# Altium schematic symbol library ATSAMD21J18A-AF.Schlib: 1 symbol
Pins are listed as number, name and electrical type; pins without a type are passive.

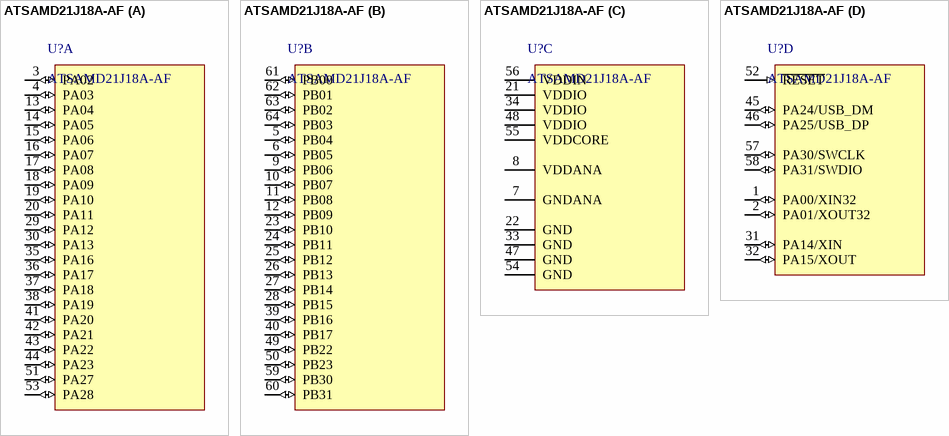
[diagram p0: symbol ATSAMD21J18A-AF]

## ATSAMD21J18A-AF
designator U?
ARM Microcontrollers - MCU 64TQFP 125C, GREEN,1.6-3.6V,48MHz
part A pins: 3 PA02 (io), 4 PA03 (io), 13 PA04 (io), 14 PA05 (io), 15 PA06 (io), 16 PA07 (io), 17 PA08 (io), 18 PA09 (io), 19 PA10 (io), 20 PA11 (io), 29 PA12 (io), 30 PA13 (io), 35 PA16 (io), 36 PA17 (io), 37 PA18 (io), 38 PA19 (io), 41 PA20 (io), 42 PA21 (io), 43 PA22 (io), 44 PA23 (io), 51 PA27 (io), 53 PA28 (io)
part B pins: 5 PB04 (io), 6 PB05 (io), 9 PB06 (io), 10 PB07 (io), 11 PB08 (io), 12 PB09 (io), 23 PB10 (io), 24 PB11 (io), 25 PB12 (io), 26 PB13 (io), 27 PB14 (io), 28 PB15 (io), 39 PB16 (io), 40 PB17 (io), 49 PB22 (io), 50 PB23 (io), 59 PB30 (io), 60 PB31 (io), 61 PB00 (io), 62 PB01 (io), 63 PB02 (io), 64 PB03 (io)
part C pins: 7 GNDANA (power), 8 VDDANA (power), 21 VDDIO (power), 22 GND (power), 33 GND (power), 34 VDDIO (power), 47 GND (power), 48 VDDIO (power), 54 GND (power), 55 VDDCORE (power), 56 VDDIN (power)
part D pins: 1 PA00/XIN32 (io), 2 PA01/XOUT32 (io), 31 PA14/XIN (io), 32 PA15/XOUT (io), 45 PA24/USB_DM (io), 46 PA25/USB_DP (io), 52 ~{RESET} (in), 57 PA30/SWCLK (io), 58 PA31/SWDIO (io)